# EAGLE library part SST11LP12 (library Microchip)
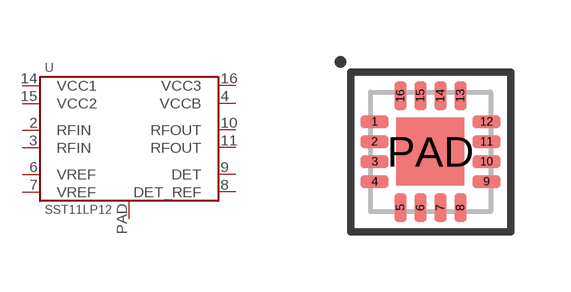
[diagram p22: symbol with the pads of WFQFN-16-3MM; footprint WFQFN-16-3MM]

Designator prefix U

## SST11LP12-QCF  [WFQFN-16-3MM]
2  RFIN
3  RFIN
4  VCCB
6  VREF
7  VREF
8  DET_REF
9  DET
10  RFOUT
11  RFOUT
14  VCC1
15  VCC2
16  VCC3
PAD  GND

## Footprint WFQFN-16-3MM (pad centres in mm)
smd 0.7 x 0.3: 1 -1.4,0.75; 2 -1.4,0.25; 3 -1.4,-0.25; 4 -1.4,-0.75; 9 1.4,-0.75; 10 1.4,-0.25; 11 1.4,0.25; 12 1.4,0.75
smd 0.3 x 0.7: 5 -0.75,-1.4; 6 -0.25,-1.4; 7 0.25,-1.4; 8 0.75,-1.4; 13 0.75,1.4; 14 0.25,1.4; 15 -0.25,1.4; 16 -0.75,1.4
smd 1.7 x 1.7: PAD 0,0